# EAGLE library part MOD_HDL_PLCC68 (library akita)
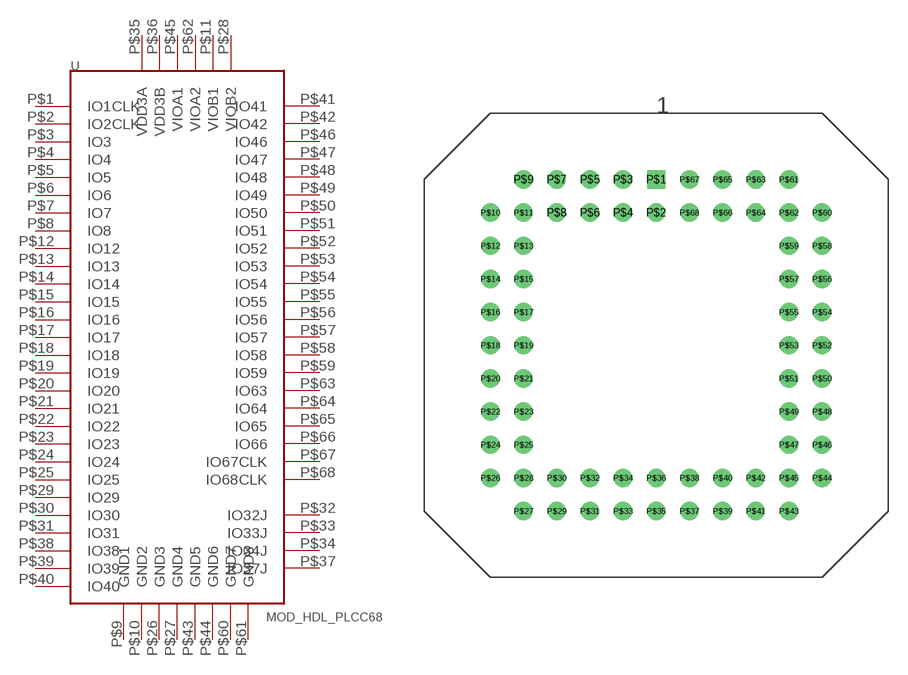
[diagram p132: symbol with the pads of SOCKET_PLCC68; footprint SOCKET_PLCC68]

Designator prefix U

## MOD_HDL_PLCC68  [SOCKET_PLCC68]
P$1  IO1CLK
P$2  IO2CLK
P$3  IO3
P$4  IO4
P$5  IO5
P$6  IO6
P$7  IO7
P$8  IO8
P$9  GND1
P$10  GND2
P$11  VIOB1
P$12  IO12
P$13  IO13
P$14  IO14
P$15  IO15
P$16  IO16
P$17  IO17
P$18  IO18
P$19  IO19
P$20  IO20
P$21  IO21
P$22  IO22
P$23  IO23
P$24  IO24
P$25  IO25
P$26  GND3
P$27  GND4
P$28  VIOB2
P$29  IO29
P$30  IO30
P$31  IO31
P$32  IO32J
P$33  IO33J
P$34  IO34J
P$35  VDD3A
P$36  VDD3B
P$37  IO37J
P$38  IO38
P$39  IO39
P$40  IO40
P$41  IO41
P$42  IO42
P$43  GND5
P$44  GND6
P$45  VIOA1
P$46  IO46
P$47  IO47
P$48  IO48
P$49  IO49
P$50  IO50
P$51  IO51
P$52  IO52
P$53  IO53
P$54  IO54
P$55  IO55
P$56  IO56
P$57  IO57
P$58  IO58
P$59  IO59
P$60  GND7
P$61  GND8
P$62  VIOA2
P$63  IO63
P$64  IO64
P$65  IO65
P$66  IO66
P$67  IO67CLK
P$68  IO68CLK

## Footprint SOCKET_PLCC68 (pad centres in mm)
drill 0.9 square: P$1 0,12.7
drill 0.9: P$2 0,10.16; P$3 -2.54,12.7; P$4 -2.54,10.16; P$5 -5.08,12.7; P$6 -5.08,10.16; P$7 -7.62,12.7; P$8 -7.62,10.16; P$9 -10.16,12.7; P$10 -12.7,10.16; P$11 -10.16,10.16; P$12 -12.7,7.62; P$13 -10.16,7.62; P$14 -12.7,5.08; P$15 -10.16,5.08; P$16 -12.7,2.54; P$17 -10.16,2.54; P$18 -12.7,0; P$19 -10.16,0; P$20 -12.7,-2.54; P$21 -10.16,-2.54; P$22 -12.7,-5.08; P$23 -10.16,-5.08; P$24 -12.7,-7.62; P$25 -10.16,-7.62; P$26 -12.7,-10.16; P$27 -10.16,-12.7; P$28 -10.16,-10.16; P$29 -7.62,-12.7; P$30 -7.62,-10.16; P$31 -5.08,-12.7; P$32 -5.08,-10.16; P$33 -2.54,-12.7; P$34 -2.54,-10.16; P$35 0,-12.7; P$36 0,-10.16; P$37 2.54,-12.7; P$38 2.54,-10.16; P$39 5.08,-12.7; P$40 5.08,-10.16; P$41 7.62,-12.7; P$42 7.62,-10.16; P$43 10.16,-12.7; P$44 12.7,-10.16; P$45 10.16,-10.16; P$46 12.7,-7.62; P$47 10.16,-7.62; P$48 12.7,-5.08; P$49 10.16,-5.08; P$50 12.7,-2.54; P$51 10.16,-2.54; P$52 12.7,0; P$53 10.16,0; P$54 12.7,2.54; P$55 10.16,2.54; P$56 12.7,5.08; P$57 10.16,5.08; P$58 12.7,7.62; P$59 10.16,7.62; P$60 12.7,10.16; P$61 10.16,12.7; P$62 10.16,10.16; P$63 7.62,12.7; P$64 7.62,10.16; P$65 5.08,12.7; P$66 5.08,10.16; P$67 2.54,12.7; P$68 2.54,10.16